# Altium schematic symbol library User.SchLib: 1 symbol
Pins are listed as number, name and electrical type; pins without a type are passive.

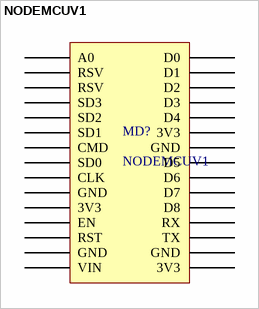
[diagram p0: symbol NODEMCUV1]

## NODEMCUV1
designator MD?
footprint NODEMCUV1
pins: 3V3, 3V3, 3V3, A0, CLK, CMD, D0, D1, D2, D3, D4, D5, D6, D7, D8, EN, GND, GND, GND, GND, RST, RSV, RSV, RX, SD0, SD1, SD2, SD3, TX, VIN